# Altium footprint library WatchX_Pro.PcbLib: 22 footprints (part 2 of 2)
Each footprint in its own frame and in the unit in brackets; x right, y up, seen from the top. Pads: shape width x height; smd on the part's side, far side on the other; paste and mask are expansions set on the pad; w line width, h text height; cw(c..) or ccw(c..) is an arc to the next point about the centre after c.
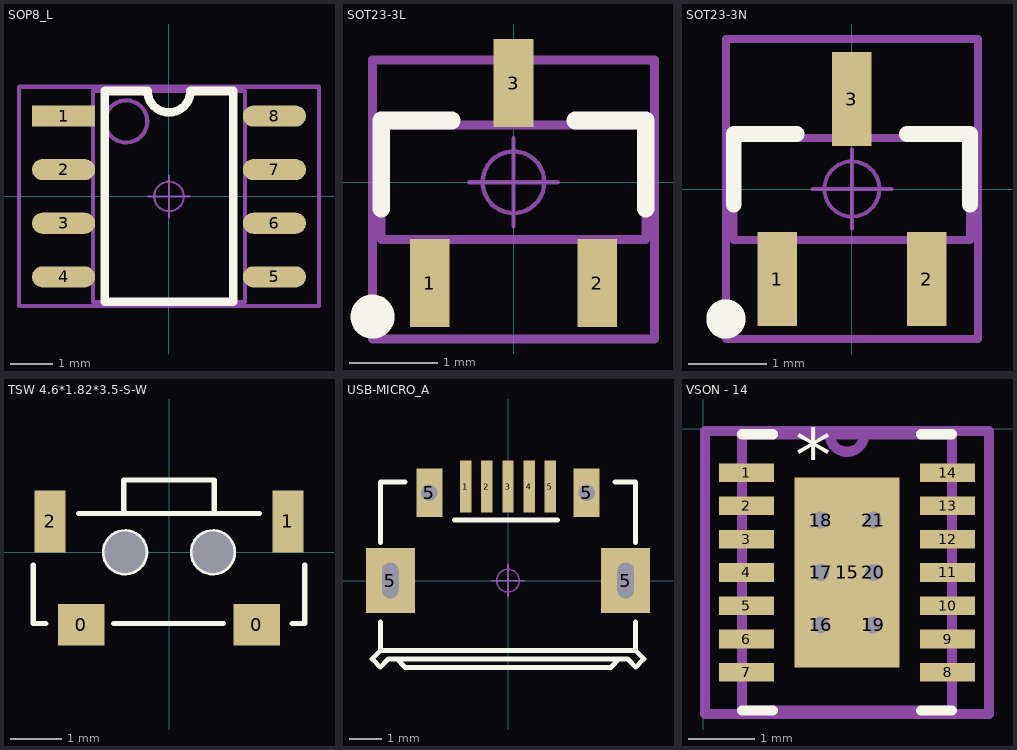
[diagram p1: the footprints below, top view; thin cyan lines are the x and y axes]

## SOP8_L [mm] "5*6*1.8mm（长宽高）"
height 1.75
pads (8):
  rect 1.5x0.5 smd: 1(-2.5,1.905)
  oval 1.5x0.5 smd: 2(-2.5,0.635) 3(-2.5,-0.635) 4(-2.5,-1.905) 5(2.5,-1.905) 6(2.5,-0.635) 7(2.5,0.635) 8(2.5,1.905)
Top Overlay:
  lines w0.2: -1.524,2.5 -1.524,-2.5 1.524,-2.5 1.524,2.5
  lines w0.203: -1.524,2.5 -0.508,2.5 ccw(c0,2.5) 0,1.992 ccw(c0,2.5) 0.508,2.5 1.524,2.5
Mechanical 13:
  circle w0.1: c-1.016,1.778 r0.5
  lines w0.1: -1.8,-2.5 1.8,-2.5 1.8,2.5 -1.8,2.5 -1.8,-2.5
Mechanical 15:
  circle w0.05: c0,0 r0.35
  lines w0.05: -0.5,0 0.5,0 ; 0,-0.5 0,0.5
  lines w0.1: -3.556,-2.6 3.556,-2.6 3.556,2.6 -3.556,2.6 -3.556,-2.6
3D body "SOP8.STEP": height 1.9, standoff 0, extent -3.003,-2.5 3.003,2.5

## SOT23-3L [mm] "3x1.3x1mm(长宽高)"
height 1.1
pads (3):
  rect 0.45x1 smd: 1(-0.95,-1.143) 2(0.95,-1.143) 3(0,1.125)
Top Overlay:
  circle w0.25: c-1.6,-1.524 r0.125
  lines w0.2: -1.5,-0.3 -1.5,0.7 -0.7,0.7 ; 0.7,0.7 1.5,0.7 1.5,-0.3
Mechanical 13:
  lines w0.1: -1.5,-0.65 -1.5,0.65 1.5,0.65 1.5,-0.65 -1.5,-0.65
Mechanical 15:
  circle w0.05: c0,0 r0.35
  lines w0.05: -0.5,0 0.5,0 ; 0,-0.5 0,0.5
  lines w0.1: -1.6,-1.778 -1.6,1.387 1.6,1.387 1.6,-1.778 -1.6,-1.778
3D body "SOT23-3.STEP": height 1.05, standoff 0, extent -1.5,-1.2 1.5,1.2

## SOT23-3N [mm] "3x1.3x1mm(长宽高)"
height 1.1
pads (3):
  rect 0.5x1.2 smd: 1(-0.95,-1.143) 2(0.95,-1.143) 3(0,1.143)
Top Overlay:
  circle w0.25: c-1.6,-1.651 r0.125
  lines w0.2: -1.501,-0.2 -1.501,0.7 -0.701,0.7 ; 0.699,0.7 1.499,0.7 1.499,-0.2
Mechanical 13:
  lines w0.1: -1.5,-0.65 1.5,-0.65 1.5,0.65 -1.5,0.65 -1.5,-0.65
Mechanical 15:
  circle w0.05: c0,0 r0.35
  lines w0.05: -0.5,0 0.5,0 ; 0,-0.5 0,0.5
  lines w0.1: -1.6,-1.905 1.6,-1.905 1.6,1.905 -1.6,1.905 -1.6,-1.905
3D body "SOT23-3.STEP": height 1.05, standoff 0, extent -1.5,-1.2 1.5,1.2

## TSW 4.6*1.82*3.5-S-W [mm] "侧立贴片4.6*1.82*3.5"
height 1.92
pads (6):
  rect 0.9x0.8 smd: 0(-1.7,-1.4) 0(1.7,-1.4)
  round 0 hole 0.8: 0(-0.85,0) 0(0.85,0)
  rect 0.6x1.2 smd: 1(2.3,0.6) 2(-2.3,0.6)
Top Overlay:
  circle w0.1: c-0.85,0 r0.4
  circle w0.1: c0.85,0 r0.4
  lines w0.1: -2.625,-0.25 -2.625,-1.375 -2.375,-1.375 ; -1.75,0.75 1.75,0.75 ; -1.075,-1.375 1.05,-1.375 ; -0.875,0.775 -0.875,1.4 0.875,1.4 0.875,0.775 ; 2.375,-1.375 2.625,-1.375 2.625,-0.25

## USB-MICRO_A [mm] "micro型USB ，5.7*7.8*2.5mm"
pads (9):
  rect 0.35x1.6 smd: 1(-1.3,2.9) 2(-0.65,2.9) 3(0,2.9) 4(0.65,2.9) 5(1.3,2.9)
  rect 1.5x2 hole 0.5 slot 1.1 at 90 deg: 5(-3.625,0) 5(3.625,0)
  rect 0.8x1.5 hole 0.5: 5(-2.425,2.71) 5(2.425,2.71)
Top Overlay:
  lines w0.152: -3.937,-1.27 -3.937,-2.159 ; -3.937,1.168 -3.937,3.048 -3.175,3.048 ; -1.65,1.875 1.525,1.875 ; 3.302,3.048 3.937,3.048 3.937,1.168 ; 3.937,-1.27 3.937,-2.159 ; -3.937,-2.159 -4.191,-2.413 -3.937,-2.667 -3.683,-2.413 -3.429,-2.413 ; -3.937,-2.159 3.937,-2.159 ; -3.429,-2.413 -3.175,-2.673 3.175,-2.673 3.429,-2.413 ; -3.429,-2.413 3.429,-2.413 ; 3.429,-2.413 3.683,-2.413 3.937,-2.667 4.191,-2.413 3.937,-2.159
Mechanical 15:
  circle w0.05: c0,0 r0.35
  lines w0.05: -0.5,0 0.5,0 ; 0,-0.5 0,0.5
3D body "USB micro_A.STEP": height 2.8, standoff -0.95, extent -4.001,-2.71 4.001,2.89

## VSON - 14 [mil]
pads (21):
  rect 32.28x11.02 smd: 1(25.55,-25.94) 2(25.55,-45.63) 3(25.55,-65.31) 4(25.55,-85) 5(25.55,-104.69) 6(25.55,-124.37) 7(25.55,-144.06) 8(144.45,-144.06) 9(144.45,-124.37) 10(144.45,-104.68) 11(144.45,-85) 12(144.45,-65.31) 13(144.45,-45.63) 14(144.45,-25.94)
  rect 62.2x112.2 smd: 15(85,-85)
  round 20 hole 10 mask-1000: 16(69.5,-116) 17(69.5,-85) 18(69.5,-54) 19(100.5,-116) 20(100.5,-85) 21(100.5,-54)
Top Overlay:
  lines w6: 22.99,-166.69 41.3,-166.69 ; 22.99,-3.31 41.3,-3.31 ; 128.7,-166.69 147.01,-166.69 ; 128.7,-3.31 147.01,-3.31
  text "*" at 54.45,-31 h31.25
Top Solder:
  region: 69.5,-105.8 65.6,-106.58 62.29,-108.79 60.08,-112.1 59.3,-116 60.08,-119.9 62.29,-123.21 65.6,-125.42 69.5,-126.2 73.4,-125.42 76.71,-123.21 78.92,-119.9 79.7,-116 78.92,-112.1 76.71,-108.79 73.4,-106.58
  region: 69.5,-74.8 65.6,-75.58 62.29,-77.79 60.08,-81.1 59.3,-85 60.08,-88.9 62.29,-92.21 65.6,-94.42 69.5,-95.2 73.4,-94.42 76.71,-92.21 78.92,-88.9 79.7,-85 78.92,-81.1 76.71,-77.79 73.4,-75.58
  region: 69.5,-43.8 65.6,-44.58 62.29,-46.79 60.08,-50.1 59.3,-54 60.08,-57.9 62.29,-61.21 65.6,-63.42 69.5,-64.2 73.4,-63.42 76.71,-61.21 78.92,-57.9 79.7,-54 78.92,-50.1 76.71,-46.79 73.4,-44.58
  region: 100.5,-105.8 96.6,-106.58 93.29,-108.79 91.08,-112.1 90.3,-116 91.08,-119.9 93.29,-123.21 96.6,-125.42 100.5,-126.2 104.4,-125.42 107.71,-123.21 109.92,-119.9 110.7,-116 109.92,-112.1 107.71,-108.79 104.4,-106.58
  region: 100.5,-74.8 96.6,-75.58 93.29,-77.79 91.08,-81.1 90.3,-85 91.08,-88.9 93.29,-92.21 96.6,-94.42 100.5,-95.2 104.4,-94.42 107.71,-92.21 109.92,-88.9 110.7,-85 109.92,-81.1 107.71,-77.79 104.4,-75.58
  region: 100.5,-43.8 96.6,-44.58 93.29,-46.79 91.08,-50.1 90.3,-54 91.08,-57.9 93.29,-61.21 96.6,-63.42 100.5,-64.2 104.4,-63.42 107.71,-61.21 109.92,-57.9 110.7,-54 109.92,-50.1 107.71,-46.79 104.4,-44.58
Bottom Solder:
  region: 69.5,-105.8 65.6,-106.58 62.29,-108.79 60.08,-112.1 59.3,-116 60.08,-119.9 62.29,-123.21 65.6,-125.42 69.5,-126.2 73.4,-125.42 76.71,-123.21 78.92,-119.9 79.7,-116 78.92,-112.1 76.71,-108.79 73.4,-106.58
  region: 69.5,-74.8 65.6,-75.58 62.29,-77.79 60.08,-81.1 59.3,-85 60.08,-88.9 62.29,-92.21 65.6,-94.42 69.5,-95.2 73.4,-94.42 76.71,-92.21 78.92,-88.9 79.7,-85 78.92,-81.1 76.71,-77.79 73.4,-75.58
  region: 69.5,-43.8 65.6,-44.58 62.29,-46.79 60.08,-50.1 59.3,-54 60.08,-57.9 62.29,-61.21 65.6,-63.42 69.5,-64.2 73.4,-63.42 76.71,-61.21 78.92,-57.9 79.7,-54 78.92,-50.1 76.71,-46.79 73.4,-44.58
  region: 100.5,-105.8 96.6,-106.58 93.29,-108.79 91.08,-112.1 90.3,-116 91.08,-119.9 93.29,-123.21 96.6,-125.42 100.5,-126.2 104.4,-125.42 107.71,-123.21 109.92,-119.9 110.7,-116 109.92,-112.1 107.71,-108.79 104.4,-106.58
  region: 100.5,-74.8 96.6,-75.58 93.29,-77.79 91.08,-81.1 90.3,-85 91.08,-88.9 93.29,-92.21 96.6,-94.42 100.5,-95.2 104.4,-94.42 107.71,-92.21 109.92,-88.9 110.7,-85 109.92,-81.1 107.71,-77.79 104.4,-75.58
  region: 100.5,-43.8 96.6,-44.58 93.29,-46.79 91.08,-50.1 90.3,-54 91.08,-57.9 93.29,-61.21 96.6,-63.42 100.5,-64.2 104.4,-63.42 107.71,-61.21 109.92,-57.9 110.7,-54 109.92,-50.1 107.71,-46.79 104.4,-44.58
Mechanical 1:
  lines w1: 73,-3.31 ccw(c85,-3.31) 97,-3.31 ; 22.99,-166.69 147.01,-166.69 147.01,-3.31 22.99,-3.31 22.99,-166.69 ; 22.99,-149.96 22.99,-138.15 22.99,-149.96 ; 22.99,-130.28 22.99,-118.46 22.99,-130.28 ; 22.99,-110.59 22.99,-98.78 22.99,-110.59 ; 22.99,-90.91 22.99,-79.09 22.99,-90.91 ; 22.99,-71.22 22.99,-59.41 22.99,-71.22 ; 22.99,-51.54 22.99,-39.72 22.99,-51.54 ; 22.99,-31.85 22.99,-20.04 22.99,-31.85 ; 147.01,-149.96 147.01,-138.15 147.01,-149.96 ; 147.01,-130.28 147.01,-118.46 147.01,-130.28 ; 147.01,-110.59 147.01,-98.78 147.01,-110.59 ; 147.01,-90.91 147.01,-79.09 147.01,-90.91 ; 147.01,-71.22 147.01,-59.41 147.01,-71.22 ; 147.01,-51.54 147.01,-39.72 147.01,-51.54 ; 147.01,-31.85 147.01,-20.04 147.01,-31.85
  text "*" at 54.5,-31 h31.25
Mechanical 16:
  lines w6: 74.67,-3.31 ccw(c85,-3.31) 95.33,-3.31 ; 0.99,-168.69 0.99,-1.31 169.01,-1.31 169.01,-168.69 0.99,-168.69 ; 22.99,-166.69 22.99,-3.31 147.01,-3.31 147.01,-166.69 22.99,-166.69
3D body "DSJ0014A.stp": height 39.37, standoff 0, extent 25.95,-163.74 144.06,-6.26